# Altium integrated library TPS54202HDDCR.IntLib: 1 symbol
Pins are listed as number, name and electrical type; pins without a type are passive.

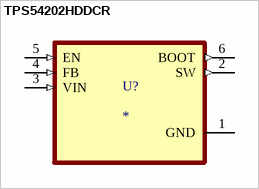
[diagram p0: symbol TPS54202HDDCR]

## TPS54202HDDCR
designator U?
4.5V to 28V Input, 2A Output, Synchronous Step-Down Voltage Converter 6-SOT-23-THIN -40 to 125; MP: TPS54202HDDCR; MF: Texas Instruments; Price: None; Availability: Good; Check_prices: https://www.snapeda.com/parts/TPS54202HDDCR/Texas%20Instruments/view-part/573706/?ref=eda; Package: SOT-23-THN-6 Texas Instruments; Purchase-URL: https://pricing.snapeda.com/search/part/TPS54202HDDCR/?ref=eda; SnapEDA_Link: https://www.snapeda.com/parts/TPS54202HDDCR/Texas%20Instruments/view-part/573706/?ref=snap; Value: *
footprint SOT95P280X110-6N
pins: 1 GND (power), 2 SW (out), 3 VIN (in), 4 FB (in), 5 EN (in), 6 BOOT (out)